# Altium footprint library EISI.PcbLib: 695 footprints (part 37 of 44)
Each footprint in its own frame and in the unit in brackets; x right, y up, seen from the top. Pads: shape width x height; smd on the part's side, far side on the other; paste and mask are expansions set on the pad; w line width, h text height; cw(c..) or ccw(c..) is an arc to the next point about the centre after c.
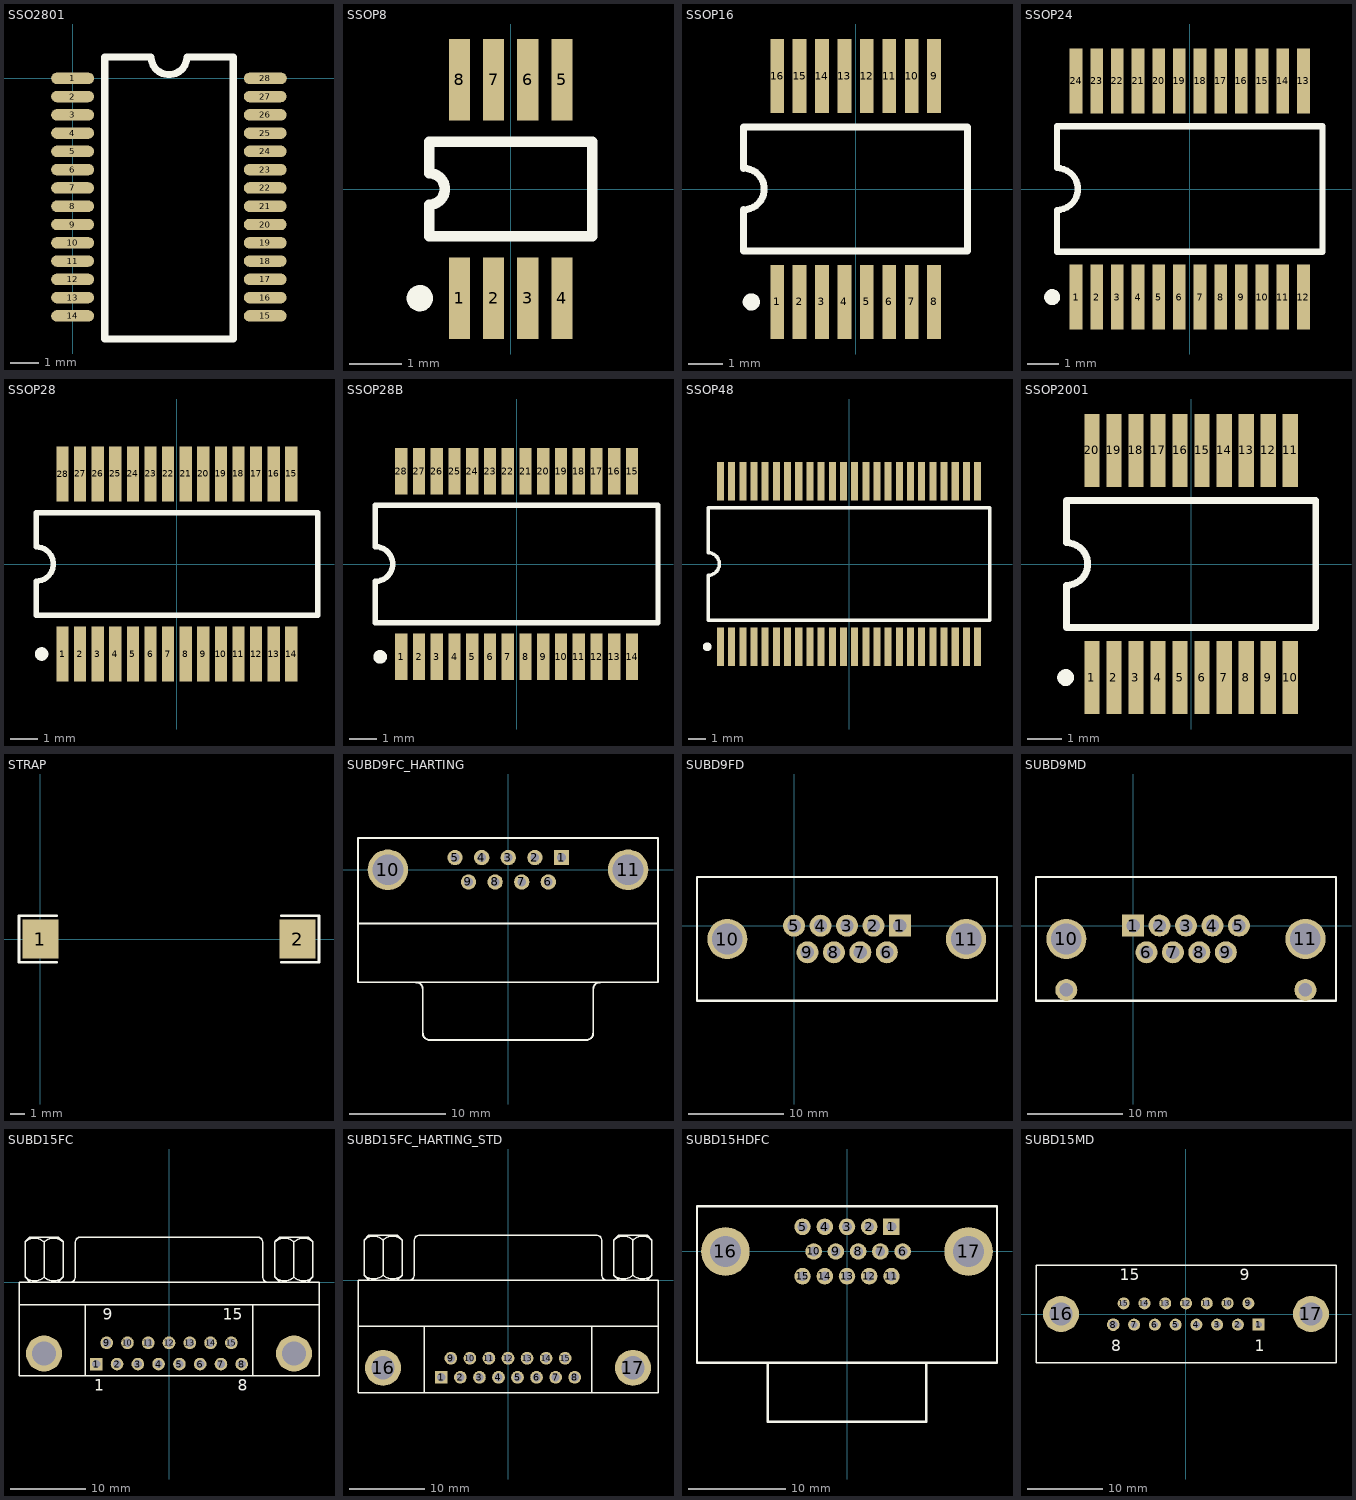
[diagram p36: the footprints below, top view; thin cyan lines are the x and y axes]

## SSO2801 [mil]
pads (28):
  oval 60x16 smd: 1(0,0) 2(0,-25.59) 3(0,-51.18) 4(0,-76.77) 5(0,-102.36) 6(0,-127.95) 7(0,-153.54) 8(0,-179.13) 9(0,-204.72) 10(0,-230.31) 11(0,-255.91) 12(0,-281.5) 13(0,-307.09) 14(0,-332.68) 15(269.69,-332.68) 16(269.69,-307.09) 17(269.69,-281.5) 18(269.69,-255.91) 19(269.69,-230.31) 20(269.69,-204.72) 21(269.69,-179.13) 22(269.69,-153.54) 23(269.69,-127.95) 24(269.69,-102.36) 25(269.69,-76.77) 26(269.69,-51.18) 27(269.69,-25.59) 28(270,0)
TopOverlay:
  lines w10: 45,-365 45,30 110,30 ccw(c135,30) 160,30 225,30 225,-365 45,-365
TopSolder:
  rectangle: -32,-342 32,10
  rectangle: 238,-343 302,10

## SSOP8 [mm] "Shrink Small Outline; 8 Leads; Body Width 3 mm; Pitch 0.65 mm"
height 1.17
pads (8):
  rect 0.4x1.55 smd: 1(-0.975,-2.075) 2(-0.325,-2.075) 3(0.325,-2.075) 4(0.975,-2.075) 5(0.975,2.075) 6(0.325,2.075) 7(-0.325,2.075) 8(-0.975,2.075)
TopOverlay:
  circle w0.25: c-1.725,-2.075 r0.125
  lines w0.2: -1.55,-0.9 1.55,-0.9 1.55,0.9 -1.55,0.9 -1.55,0.3 cw(c-1.55,0) -1.55,-0.3 -1.55,-0.9

## SSOP16 [mm] "SSOP; 16 Leads; Body Width 5.3 mm; Pitch 0.65 mm"
height 1.99
pads (16):
  rect 0.4x2.15 smd: 1(-2.275,-3.275) 2(-1.625,-3.275) 3(-0.975,-3.275) 4(-0.325,-3.275) 5(0.325,-3.275) 6(0.975,-3.275) 7(1.625,-3.275) 8(2.275,-3.275) 9(2.275,3.275) 10(1.625,3.275) 11(0.975,3.275) 12(0.325,3.275) 13(-0.325,3.275) 14(-0.975,3.275) 15(-1.625,3.275) 16(-2.275,3.275)
TopOverlay:
  circle w0.25: c-3.025,-3.275 r0.125
  lines w0.2: -3.25,-1.8 3.25,-1.8 3.25,1.8 -3.25,1.8 -3.25,0.6 cw(c-3.25,0) -3.25,-0.6 -3.25,-1.8

## SSOP24 [mm] "SSOP; 24 Leads; Body Width 5.3 mm; Pitch 0.65 mm"
height 1.99
pads (24):
  rect 0.4x2.05 smd: 1(-3.575,-3.4) 2(-2.925,-3.4) 3(-2.275,-3.4) 4(-1.625,-3.4) 5(-0.975,-3.4) 6(-0.325,-3.4) 7(0.325,-3.4) 8(0.975,-3.4) 9(1.625,-3.4) 10(2.275,-3.4) 11(2.925,-3.4) 12(3.575,-3.4) 13(3.575,3.4) 14(2.925,3.4) 15(2.275,3.4) 16(1.625,3.4) 17(0.975,3.4) 18(0.325,3.4) 19(-0.325,3.4) 20(-0.975,3.4) 21(-1.625,3.4) 22(-2.275,3.4) 23(-2.925,3.4) 24(-3.575,3.4)
TopOverlay:
  circle w0.25: c-4.325,-3.4 r0.125
  lines w0.2: -4.175,-1.975 4.175,-1.975 4.175,1.975 -4.175,1.975 -4.175,0.658 cw(c-4.175,0) -4.175,-0.658 -4.175,-1.975

## SSOP28 [mm] "SSOP; 28 Leads; Body Width 5.3 mm; Pitch 0.65 mm"
height 1.99
pads (28):
  rect 0.45x2.05 smd: 1(-4.225,-3.325) 2(-3.575,-3.325) 3(-2.925,-3.325) 4(-2.275,-3.325) 5(-1.625,-3.325) 6(-0.975,-3.325) 7(-0.325,-3.325) 8(0.325,-3.325) 9(0.975,-3.325) 10(1.625,-3.325) 11(2.275,-3.325) 12(2.925,-3.325) 13(3.575,-3.325) 14(4.225,-3.325) 15(4.225,3.325) 16(3.575,3.325) 17(2.925,3.325) 18(2.275,3.325) 19(1.625,3.325) 20(0.975,3.325) 21(0.325,3.325) 22(-0.325,3.325) 23(-0.975,3.325) 24(-1.625,3.325) 25(-2.275,3.325) 26(-2.925,3.325) 27(-3.575,3.325) 28(-4.225,3.325)
TopOverlay:
  circle w0.25: c-5,-3.325 r0.125
  lines w0.2: -5.2,-1.9 -5.2,-0.633 ccw(c-5.2,0) -5.2,0.633 -5.2,1.9 5.2,1.9 5.2,-1.9 -5.2,-1.9

## SSOP28B [mm] "SSOP; 28 Leads; Body Width 5.3 mm; Pitch 0.65 mm"
height 1.98
pads (28):
  rect 0.45x1.7 smd: 1(-4.225,-3.4) 2(-3.575,-3.4) 3(-2.925,-3.4) 4(-2.275,-3.4) 5(-1.625,-3.4) 6(-0.975,-3.4) 7(-0.325,-3.4) 8(0.325,-3.4) 9(0.975,-3.4) 10(1.625,-3.4) 11(2.275,-3.4) 12(2.925,-3.4) 13(3.575,-3.4) 14(4.225,-3.4) 15(4.225,3.4) 16(3.575,3.4) 17(2.925,3.4) 18(2.275,3.4) 19(1.625,3.4) 20(0.975,3.4) 21(0.325,3.4) 22(-0.325,3.4) 23(-0.975,3.4) 24(-1.625,3.4) 25(-2.275,3.4) 26(-2.925,3.4) 27(-3.575,3.4) 28(-4.225,3.4)
TopOverlay:
  circle w0.25: c-5,-3.4 r0.125
  lines w0.2: -5.175,-2.15 5.175,-2.15 5.175,2.15 -5.175,2.15 -5.175,0.635 cw(c-5.175,0) -5.175,-0.635 -5.175,-2.15

## SSOP48 [mm] "SSOP; 48 Leads; Body Width 7.5 mm; Pitch 0.635 mm"
height 2.79
pads (48):
  rect 0.4x2.2 smd: 1(-7.302,-4.7) 2(-6.667,-4.7) 3(-6.032,-4.7) 4(-5.397,-4.7) 5(-4.763,-4.7) 6(-4.127,-4.7) 7(-3.492,-4.7) 8(-2.857,-4.7) 9(-2.222,-4.7) 10(-1.587,-4.7) 11(-0.953,-4.7) 12(-0.318,-4.7) 13(0.318,-4.7) 14(0.953,-4.7) 15(1.587,-4.7) 16(2.222,-4.7) 17(2.857,-4.7) 18(3.492,-4.7) 19(4.127,-4.7) 20(4.763,-4.7) 21(5.397,-4.7) 22(6.032,-4.7) 23(6.667,-4.7) 24(7.302,-4.7) 25(7.302,4.7) 26(6.667,4.7) 27(6.032,4.7) 28(5.397,4.7) 29(4.763,4.7) 30(4.127,4.7) 31(3.492,4.7) 32(2.857,4.7) 33(2.222,4.7) 34(1.587,4.7) 35(0.953,4.7) 36(0.318,4.7) 37(-0.318,4.7) 38(-0.953,4.7) 39(-1.587,4.7) 40(-2.222,4.7) 41(-2.857,4.7) 42(-3.492,4.7) 43(-4.127,4.7) 44(-4.763,4.7) 45(-5.397,4.7) 46(-6.032,4.7) 47(-6.667,4.7) 48(-7.302,4.7)
TopOverlay:
  circle w0.25: c-8.053,-4.7 r0.125
  lines w0.2: -8,-3.2 -8,-0.635 ccw(c-8,0) -8,0.635 -8,3.2 8,3.2 8,-3.2 -8,-3.2

## SSOP2001 [mm]
pads (20):
  rect 0.45x2.15 smd: 1(-2.925,-3.35) 2(-2.275,-3.35) 3(-1.625,-3.35) 4(-0.975,-3.35) 5(-0.325,-3.35) 6(0.325,-3.35) 7(0.975,-3.35) 8(1.625,-3.35) 9(2.275,-3.35) 10(2.925,-3.35) 11(2.925,3.35) 12(2.275,3.35) 13(1.625,3.35) 14(0.975,3.35) 15(0.325,3.35) 16(-0.325,3.35) 17(-0.975,3.35) 18(-1.625,3.35) 19(-2.275,3.35) 20(-2.925,3.35)
TopOverlay:
  circle w0.25: c-3.7,-3.35 r0.125
  lines w0.2: -3.675,-1.875 3.675,-1.875 3.675,1.875 -3.675,1.875 -3.675,0.625 cw(c-3.675,0) -3.675,-0.625 -3.675,-1.875

## STRAP [mil]
pads (2):
  rect 100x110 smd: 1(0,0) 2(720,0)
TopOverlay:
  lines w7.87: 45,-65 -60,-65 -60,65 45,65 ; 675,-65 780,-65 780,65 675,65

## SUBD9FC_HARTING [mm] "SUBD9 femelle coudé Harting 0966152x61x"
height 13.6
pads (11):
  rect 1.6x1.6 hole 0.9: 1(5.567,1.27)
  round 1.6 hole 0.9: 2(2.798,1.27) 3(0.03,1.27) 4(-2.739,1.27) 5(-5.507,1.27) 6(4.195,-1.27) 7(1.427,-1.27) 8(-1.342,-1.27) 9(-4.11,-1.27)
  round 4.2 hole 3.2: 10(-12.492,0) 11(12.492,0)
TopOverlay:
  lines w0.2: -15.6,-5.6 15.6,-5.6 ; -9.56,-11.705 cw(c-9.56,-12.4) -8.865,-12.4 -8.865,-17 ; -8.86,-17.005 ccw(c-8.165,-17.005) -8.165,-17.7 8.165,-17.7 ccw(c8.165,-17.005) 8.86,-17.005 ; 8.865,-17 8.865,-12.4 cw(c9.56,-12.4) 9.56,-11.705 ; -15.6,-11.7 -15.6,3.3 15.6,3.3 15.6,-11.7 -15.6,-11.7

## SUBD9FD [mm] "SUBD9 femelle droit"
pads (11):
  rect 2.3x2.3 hole 1.4: 1(11.074,0)
  round 2.3 hole 1.4: 2(8.306,0) 3(5.537,0) 4(2.769,0) 5(0,0) 6(9.703,-2.794) 7(6.934,-2.794) 8(4.166,-2.794) 9(1.397,-2.794)
  round 4.2 hole 3.2: 10(-6.985,-1.397) 11(18,-1.4)
TopOverlay:
  lines w0.2: -10.16,5.08 21.234,5.08 21.234,-7.874
  lines w0.254: -10.16,5.08 -10.16,-7.874 21.234,-7.874

## SUBD9MD [mm] "SUBD9 mâle droit"
pads (13):
  rect 2.3x2.3 hole 1.4: 1(0,0)
  round 2.3 hole 1.4: 2(2.769,0) 3(5.537,0) 4(8.306,0) 5(11.074,0) 6(1.397,-2.794) 7(4.166,-2.794) 8(6.934,-2.794) 9(9.703,-2.794) ""(-6.985,-6.731) ""(18.034,-6.731)
  round 4.2 hole 3.2: 10(-6.985,-1.397) 11(18.034,-1.397)
TopOverlay:
  lines w0.2: -10.16,5.08 21.234,5.08 21.234,-7.874
  lines w0.254: -10.16,5.08 -10.16,-7.874 21.234,-7.874

## SUBD15FC [mm] "Connector D Subminiature 15 Position; Right Angle Female"
height 12.75
pads (17):
  rect 1.69x1.69 hole 1.09: 1(-9.695,-10.92)
  round 1.69 hole 1.09: 2(-6.925,-10.92) 3(-4.155,-10.92) 4(-1.385,-10.92) 5(1.385,-10.92) 6(4.155,-10.92) 7(6.925,-10.92) 8(9.695,-10.92) 9(-8.31,-8.08) 10(-5.54,-8.08) 11(-2.77,-8.08) 12(0,-8.08) 13(2.77,-8.08) 14(5.54,-8.08) 15(8.31,-8.08)
  round 4.8 hole 3.18: ""(-16.66,-9.5) ""(16.66,-9.5)
TopOverlay:
  lines w0.2: -20,-3 20,-3 ; -19.188,5.35 -19.188,0.699 -18.553,0.064 ; -19.188,5.365 -18.553,6 -14.743,6 -14.108,5.365 ; -16.648,0.699 -16.648,5.35 ; -14.743,0.064 -14.108,0.699 -14.108,5.35 ; -14.108,4.086 -14.108,4.298 ; -13.195,0.005 ccw(c-13.195,0.7) -12.5,0.7 -12.5,5.3 ; -12.495,5.305 cw(c-11.8,5.305) -11.8,6 11.8,6 cw(c11.8,5.305) 12.495,5.305 ; -11.14,-12.5 -11.14,-3 ; 11.14,-12.5 11.14,-3 ; 12.5,5.3 12.5,0.7 ccw(c13.195,0.7) 13.195,0.005 ; 14.112,5.35 14.112,0.699 14.747,0.064 ; 14.112,5.365 14.747,6 18.557,6 19.192,5.365 ; 16.652,0.699 16.652,5.35 ; 18.557,0.064 19.192,0.699 19.192,5.35 ; 19.192,4.086 19.192,4.298 ; -20,-12.5 -20,0 20,0 20,-12.5 -20,-12.5
  lines w0.203: -19.19,0.697 ccw(c-17.918,1.969) -16.646,0.697 ; -19.188,5.35 cw(c-17.916,4.078) -16.643,5.35 ; -16.652,5.35 cw(c-15.38,4.078) -14.108,5.35 ; -16.65,0.697 ccw(c-15.378,1.969) -14.106,0.697 ; 14.11,0.697 ccw(c15.382,1.969) 16.654,0.697 ; 14.112,5.35 cw(c15.384,4.078) 16.657,5.35 ; 16.648,5.35 cw(c17.92,4.078) 19.192,5.35 ; 16.65,0.697 ccw(c17.922,1.969) 19.194,0.697
  text "1" at -9.945,-14.475 h1.5
  text "8" at 9.195,-14.475 h1.5
  text "15" at 7.185,-4.975 h1.5
  text "9" at -8.81,-4.975 h1.5

## SUBD15FC_HARTING_STD [mm] "Connector D Subminiature 15 Position; Right Angle Female"
height 13.6
pads (17):
  rect 1.69x1.69 hole 1.09: 1(-8.89,-12.94)
  round 1.69 hole 1.09: 2(-6.35,-12.94) 3(-3.81,-12.94) 4(-1.27,-12.94) 5(1.27,-12.94) 6(3.81,-12.94) 7(6.35,-12.94) 8(8.89,-12.94) 9(-7.62,-10.4) 10(-5.08,-10.4) 11(-2.54,-10.4) 12(0,-10.4) 13(2.54,-10.4) 14(5.08,-10.4) 15(7.62,-10.4)
  round 4.8 hole 3.1: 16(-16.66,-11.67) 17(16.66,-11.67)
TopOverlay:
  lines w0.2: -20,-6.1 20,-6.1 ; -19.188,5.35 -19.188,0.699 -18.553,0.064 ; -19.188,5.365 -18.553,6 -14.743,6 -14.108,5.365 ; -16.648,0.699 -16.648,5.35 ; -14.743,0.064 -14.108,0.699 -14.108,5.35 ; -14.108,4.086 -14.108,4.298 ; -13.195,0.005 ccw(c-13.195,0.7) -12.5,0.7 -12.5,5.3 ; -12.495,5.305 cw(c-11.8,5.305) -11.8,6 11.8,6 cw(c11.8,5.305) 12.495,5.305 ; -11.14,-15 -11.14,-6.1 ; 11.14,-15 11.14,-6.1 ; 12.5,5.3 12.5,0.7 ccw(c13.195,0.7) 13.195,0.005 ; 14.112,5.35 14.112,0.699 14.747,0.064 ; 14.112,5.365 14.747,6 18.557,6 19.192,5.365 ; 16.652,0.699 16.652,5.35 ; 18.557,0.064 19.192,0.699 19.192,5.35 ; 19.192,4.086 19.192,4.298 ; -20,-15 20,-15 20,0 -20,0 -20,-15
  lines w0.203: -19.19,0.697 ccw(c-17.918,1.969) -16.646,0.697 ; -19.188,5.35 cw(c-17.916,4.078) -16.643,5.35 ; -16.652,5.35 cw(c-15.38,4.078) -14.108,5.35 ; -16.65,0.697 ccw(c-15.378,1.969) -14.106,0.697 ; 14.11,0.697 ccw(c15.382,1.969) 16.654,0.697 ; 14.112,5.35 cw(c15.384,4.078) 16.657,5.35 ; 16.648,5.35 cw(c17.92,4.078) 19.192,5.35 ; 16.65,0.697 ccw(c17.922,1.969) 19.194,0.697

## SUBD15HDFC [mm] "Con Sub-D15 High density femelle coudé"
height 15
pads (17):
  rect 1.7x1.7 hole 1: 1(4.572,2.54)
  round 1.7 hole 1: 2(2.286,2.54) 3(0,2.54) 4(-2.286,2.54) 5(-4.572,2.54) 6(5.715,0) 7(3.429,0) 8(1.143,0) 9(-1.143,0) 10(-3.429,0) 11(4.572,-2.54) 12(2.286,-2.54) 13(0,-2.54) 14(-2.286,-2.54) 15(-4.572,-2.54)
  round 5 hole 3.2: 16(-12.5,0) 17(12.5,0)
TopOverlay:
  lines w0.25: -8.128,-11.43 -8.128,-17.526 8.128,-17.526 8.128,-11.43 ; -15.42,-11.43 -15.42,4.67 15.42,4.67 15.42,-11.43 -15.42,-11.43

## SUBD15MD [mm] "Connector D Subminiature 15 Position; Male"
height 6.2
pads (17):
  rect 1.6x1.6 hole 0.9: 1(9.695,-1.42)
  round 1.6 hole 0.9: 2(6.925,-1.42) 3(4.155,-1.42) 4(1.385,-1.42) 5(-1.385,-1.42) 6(-4.155,-1.42) 7(-6.925,-1.42) 9(8.31,1.42) 10(5.54,1.42) 11(2.77,1.42) 12(0,1.42) 13(-2.77,1.42) 14(-5.54,1.42) 15(-8.31,1.42)
  round 1.69 hole 1.09: 8(-9.695,-1.42)
  round 4.8 hole 3.1: 16(-16.66,0) 17(16.66,0)
TopOverlay:
  lines w0.2: -20,-6.5 20,-6.5 20,6.5 -20,6.5 -20,-6.5
  text "15" at -8.81,4.525 h1.5
  text "9" at 7.185,4.525 h1.5
  text "1" at 9.195,-4.975 h1.5
  text "8" at -9.945,-4.975 h1.5